# Altium footprint library 2440PCBV5_20140403.PcbLib: 166 footprints (part 11 of 11)
Each footprint in its own frame and in the unit in brackets; x right, y up, seen from the top. Pads: shape width x height; smd on the part's side, far side on the other; paste and mask are expansions set on the pad; w line width, h text height; cw(c..) or ccw(c..) is an arc to the next point about the centre after c.
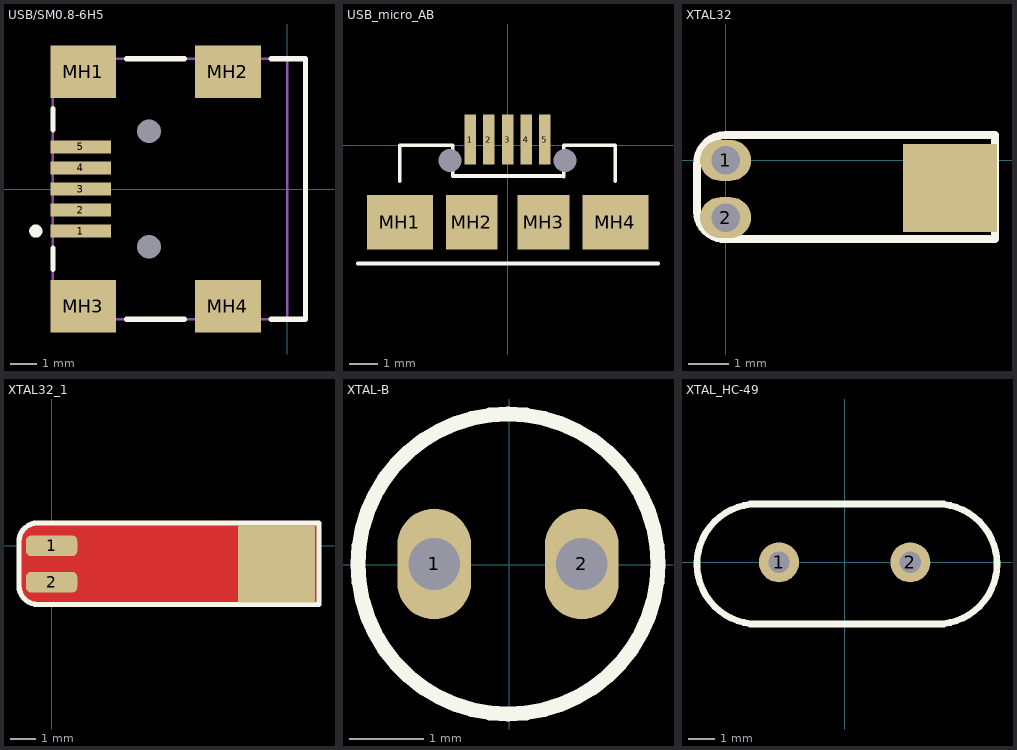
[diagram p10: the footprints below, top view; thin cyan lines are the x and y axes]

## USB/SM0.8-6H5 [mm] "Connector; USB2.0, Type B, SM; 5 Position; Right Angle"
height 3.9
pads (11):
  rect 2.3x0.5 smd: 1(-7.85,-1.6) 2(-7.85,-0.8) 3(-7.85,0) 4(-7.85,0.8) 5(-7.85,1.6)
  rect 2.5x2 smd: MH1(-7.75,4.45) MH2(-2.25,4.45) MH3(-7.75,-4.45) MH4(-2.25,-4.45)
  round 0.6 hole 0.9 unplated: ""(-5.25,-2.2) ""(-5.25,2.2)
Top Overlay:
  circle w0.25: c-9.55,-1.6 r0.125
  lines w0.2: -8.9,-3.05 -8.9,-2.25 ; -8.9,2.25 -8.9,3.05 ; -6.1,-4.95 -3.9,-4.95 ; -6.1,4.95 -3.9,4.95 ; -0.6,-4.95 0.7,-4.95 0.7,4.95 -0.6,4.95
Mechanical 2:
  text "PCB Edge" at 0.432,-4.036 h0.25
Mechanical 5:
  lines w0.1: -8.9,-4.95 0.7,-4.95 ; -8.9,4.95 0.7,4.95 ; 0,-4.95 0,4.95
Mechanical 13:
  lines w0.1: -8.9,-4.95 -8.9,4.95 ; 0.7,-4.95 0.7,4.95
3D body: height 3.9, standoff 0, extent -8.9,-4.95 0.7,4.95

## USB_micro_AB [mm] "micro USB 座(兼容A和B)"
pads (11):
  round 0 hole 0.8: 0(-2,-0.525) 0(2,-0.525)
  rect 0.4x1.75 smd: 1(-1.3,0.2) 2(-0.65,0.2) 3(0,0.2) 4(0.65,0.2) 5(1.3,0.2)
  rect 2.3x1.9 smd: MH1(-3.75,-2.675) MH4(3.75,-2.675)
  rect 1.8x1.9 smd: MH2(-1.25,-2.675) MH3(1.25,-2.675)
Top Overlay:
  lines w0.127: -5.207,-4.115 5.232,-4.115 ; -3.75,-1.253 -3.75,0 -1.905,0 -1.905,-1.067 1.93,-1.067 1.956,-1.092 1.956,0 3.75,0 3.75,-1.253

## XTAL32 [mil]
pads (3):
  oval 50x40 hole 28: 1(0,0) 2(0,-56)
  rect 92.13x86 smd: ""(220,-27)
Top Overlay:
  lines w8: -28,-50 ccw(c-0.5,-49.5) 0,-77 264,-77 264,25 0,25 ccw(c0.5,-3.5) -28,-4 -28,-50

## XTAL32_1 [mil]
pads (3):
  rrect50% 78.74x31.5 smd: 1(0,0) 2(0,-56)
  rect 118x118 smd: ""(345,-28)
Top Layer:
  pour cut-out: 410,35 409.9,-90 44,-88 -1,-88 -21.01,-89.99 -45,-78 -50,-62 -50,6.01 -40,26 -22.01,35 3,32
Top Overlay:
  lines w8: 409.9,-90 -21.01,-90 cw(c-21.51,-61.5) -50,-62 -50,6.01 cw(c-21.51,6.51) -22.01,35 410,35 410,-90

## XTAL-B [mm]
pads (2):
  oval 1x1.5 hole 0.7: 1(-1.017,0.012) 2(0.983,0.012)
Top Overlay:
  circle w0.2: c-0.017,0.012 r2.032
3D body: height 8.2, standoff -2.95, extent -1.575,-1.586 1.525,1.514

## XTAL_HC-49 [mil]
height 118.11
pads (2):
  round 60 hole 32: 1(-98.5,0) 2(98.5,0)
Top Overlay:
  lines w10: -141.5,-92.5 148.5,-92.5 ; -141.5,87.5 148.5,87.5 ; -131.5,-92.5 cw(c-131.5,-2.5) -131.5,87.5 ; 138.5,-92.5 ccw(c138.5,-2.5) 138.5,87.5
3D body: height 137.8, standoff -157.48, extent -220.21,-93.6 226.64,89.47